# Altium footprint library REUN.468349.001_PSU_Board.PcbLib: 26 footprints (part 2 of 2)
Each footprint in its own frame and in the unit in brackets; x right, y up, seen from the top. Pads: shape width x height; smd on the part's side, far side on the other; paste and mask are expansions set on the pad; w line width, h text height; cw(c..) or ccw(c..) is an arc to the next point about the centre after c.
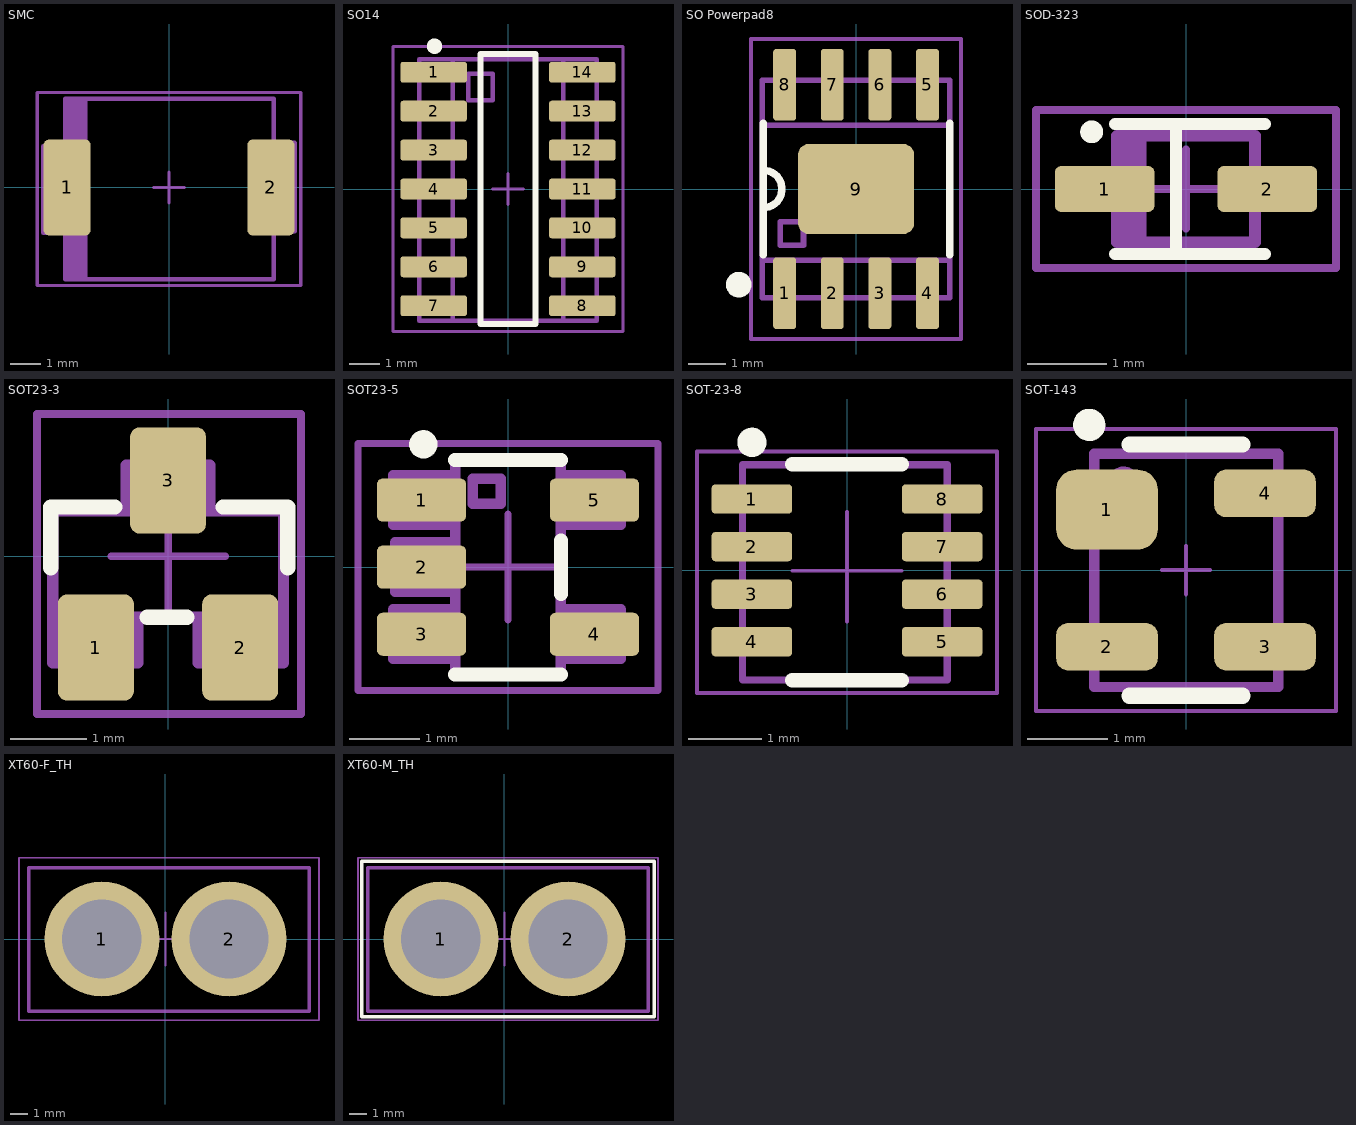
[diagram p1: the footprints below, top view; thin cyan lines are the x and y axes]

## SMC [mm]
pads (2):
  rrect25% 1.54x3.14 smd: 1(-3.325,0) 2(3.325,0)
Mechanical 11:
  rectangle: -3.39,-3 -2.74,2.9
  lines w0.15: -3.39,-1.475 -4.1,-1.475 -4.1,1.35 -3.39,1.35 ; -2.74,-3 -2.74,2.9 ; 3.415,-1.425 4.1,-1.425 4.1,1.45 3.415,1.45 ; -3.39,-3 -3.39,2.9 3.415,2.9 3.415,-3 -3.39,-3
Mechanical 15:
  lines w0.1: -0.5,0 0.5,0 ; 0,-0.5 0,0.5 ; -4.3,-3.2 4.3,-3.2 4.3,3.1 -4.3,3.1 -4.3,-3.2
3D body "User Library-DO-214AB-SMC.step": height 2.44, standoff -0.01, extent -3.9,-2.95 3.9,2.95

## SO14 [mm]
pads (14):
  rrect25% 2.17x0.68 smd: 1(-2.425,3.81) 2(-2.425,2.54) 3(-2.425,1.27) 4(-2.425,0) 5(-2.425,-1.27) 6(-2.425,-2.54) 7(-2.425,-3.81) 8(2.425,-3.81) 9(2.425,-2.54) 10(2.425,-1.27) 11(2.425,0) 12(2.425,1.27) 13(2.425,2.54) 14(2.425,3.81)
Top Overlay:
  circle w0.25: c-2.4,4.66 r0.125
  lines w0.2: -0.9,-4.4 -0.9,4.4 0.9,4.4 0.9,-4.4 -0.9,-4.4
Mechanical 9:
  text ".Designator" at -4.8,5.8 h3.5
Mechanical 10:
  text ".Comment" at -2.9,-6.3 h2
Mechanical 11:
  lines w0.15: -1.8,-4.3 -1.8,4.235 ; 1.8,-4.3 1.8,4.235 ; -2.9,-4.3 -2,-4.3 2.9,-4.3 2.9,4.235 -2.9,4.235 -2.9,-4.3 ; -1.3,2.9 -0.5,2.9 -0.5,3.76 -1.3,3.76 -1.3,2.9
Mechanical 15:
  lines w0.1: -0.5,0 0.5,0 ; 0,-0.5 0,0.5 ; -3.75,-4.65 3.75,-4.65 3.75,4.65 -3.75,4.65 -3.75,-4.65
3D body "User Library-SOIC14-150.step": height 1.75, standoff 0, extent -2.9,-4.275 2.9,4.275

## SO Powerpad8 [mm]
pads (9):
  rrect25% 0.61x1.91 smd: 1(-1.905,-2.78) 2(-0.635,-2.78) 3(0.635,-2.78) 4(1.905,-2.78) 5(1.905,2.78) 6(0.635,2.78) 7(-0.635,2.78) 8(-1.905,2.78)
  rrect25% 3.1x2.41 smd: 9(0,0)
Top Overlay:
  circle w0.254: c-3.127,-2.55 r0.215
  lines w0.2: -2.475,-1.75 -2.475,1.75 ; -2.475,-0.5 ccw(c-2.475,0) -2.475,0.5 ; 2.5,-1.75 2.5,1.75
  lines w0.254: -3.025,-2.55 cw(c-3.152,-2.55) -3.025,-2.54
Mechanical 9:
  text ".Designator" at -4.6,4.825 h3.5
Mechanical 10:
  text ".Comment" at -2.8,-5.45 h2
Mechanical 11:
  lines w0.15: -2.5,-1.9 2.5,-1.9 ; -2.5,1.7 2.5,1.7 ; -2.5,-2.9 2.5,-2.9 2.5,2.9 -2.5,2.9 -2.5,-2.9 ; -2.025,-1.5 -1.4,-1.5 -1.4,-0.875 -2.025,-0.875 -2.025,-1.5
Mechanical 15:
  lines w0.1: -0.75,0 0.75,0 ; 0,-0.75 0,0.75 ; -2.8,-4 2.8,-4 2.8,4 -2.8,4 -2.8,-4
3D body "CircuitWorks-SO-8.step": height 1.45, standoff 0, extent -2.451,-2.925 2.451,2.853

## SOD-323 [mm]
pads (2):
  rrect25% 1.26x0.58 smd: 1(-1.03,0) 2(1.03,0)
Top Overlay:
  lines w0.15: -1.125,0.725 cw(c-1.195,0.725) -1.125,0.732 ; -0.9,-0.825 1,-0.825 ; -0.9,0.825 1,0.825 ; -0.125,-0.8 -0.125,0.825
Top Designator:
  text ".Designator" at 2.575,0.335 h1.5
Mechanical 9:
  text ".Designator" at -4.9,2 h1.5
Mechanical 10:
  text ".Comment" at -2.9,-2.6 h2
Mechanical 11:
  lines w0.15: -0.875,-0.175 -1.3,-0.175 -1.3,0.2 -0.875,0.2 ; -0.775,-0.675 -0.775,0.675 ; -0.675,-0.675 -0.675,0.675 ; -0.575,-0.675 -0.575,0.675 ; 0.875,-0.175 1.3,-0.175 1.3,0.2 0.875,0.2 ; -0.875,-0.675 -0.875,0.675 0.875,0.675 0.875,-0.675 -0.875,-0.675
Mechanical 15:
  lines w0.1: -0.5,0 0.5,0 ; 0,-0.5 0,0.5 ; -1.9,-1 -1.9,1 1.9,1 1.9,-1 -1.9,-1
3D body "User Library-SOD323-1.step": height 1.1, standoff 0, extent -1.3,-0.675 1.3,0.675

## SOT23-3 [mm]
pads (3):
  rrect25% 1x1.4 smd: 1(-0.95,-1.2) 2(0.95,-1.2) 3(0,1)
Top Overlay:
  lines w0.2: -1.545,-0.15 -1.545,0.65 -0.7,0.65 ; -0.275,-0.8 0.25,-0.8 ; 0.725,0.65 1.575,0.65 1.575,-0.15
Top Designator:
  text ".Designator" at 2.588,0.235 h1.5
Mechanical 7:
  lines w0.15: -1.52,-0.8 1.52,-0.8 ; -0.55,0.6 -0.55,1.2 0.55,1.2 0.55,0.6 ; -0.4,-0.8 -0.4,-1.4 -1.52,-1.4 -1.52,0.6 1.52,0.6 1.52,-1.4 0.4,-1.4 0.4,-0.8
Mechanical 9:
  text ".Designator" at -5.1,2.6 h1.5
Mechanical 10:
  text ".Comment" at -2.9,-3.2 h2
Mechanical 15:
  lines w0.1: -0.75,0 0.75,0 ; 0,-0.75 0,0.75 ; -1.725,-2.075 -1.725,1.875 1.75,1.875 1.75,-2.075 -1.725,-2.075
3D body "SOT-23-3.STEP": height 1.1, standoff 0, extent -1.5,-1.25 1.5,1.05

## SOT23-5 [mm]
pads (5):
  rrect25% 1.26x0.61 smd: 1(-1.225,0.95) 2(-1.225,0) 3(-1.225,-0.95) 4(1.225,-0.95) 5(1.225,0.95)
Top Overlay:
  circle w0.2: c-1.2,1.74 r0.1
  lines w0.2: -0.75,-1.52 0.75,-1.52 ; -0.75,1.52 0.75,1.52 ; 0.75,-0.38 0.75,0.38
Top Designator:
  text ".Designator" at -2.575,-0.265 h1.5
Mechanical 9:
  text ".Designator" at -4.575,2.7 h1.5
Mechanical 10:
  text ".Comment" at -3.325,-3.55 h2
Mechanical 11:
  lines w0.15: -0.75,-1.3 -1.625,-1.3 -1.625,-0.6 -0.75,-0.6 ; -0.75,-0.35 -1.6,-0.35 -1.6,0.35 -0.75,0.35 ; -0.75,0.6 -1.625,0.6 -1.625,1.3 -0.75,1.3 ; 0.75,-1.3 1.6,-1.3 1.6,-0.6 0.75,-0.6 ; 0.75,0.6 1.6,0.6 1.6,1.3 0.75,1.3 ; -0.75,-1.52 0.75,-1.52 0.75,1.52 -0.75,1.52 -0.75,-1.52 ; -0.5,0.9 -0.1,0.9 -0.1,1.25 -0.5,1.25 -0.5,0.9
Mechanical 15:
  lines w0.1: -0.75,0 0.75,0 ; 0,-0.75 0,0.75 ; -2.125,-1.75 -2.125,1.75 -2,1.75 2.125,1.75 2.125,-1.75 -2.125,-1.75
3D body "User Library-SOT23-5-3.STEP": height 1.45, standoff 0.01, extent -1.6,-1.555 1.6,1.545

## SOT-23-8 [mm]
height 1.12
pads (8):
  rrect25% 1.1x0.4 smd: 1(-1.3,0.975) 2(-1.3,0.325) 3(-1.3,-0.325) 4(-1.3,-0.975) 5(1.3,-0.975) 6(1.3,-0.325) 7(1.3,0.325) 8(1.3,0.975)
Top Overlay:
  circle w0.2: c-1.3,1.75 r0.1
  lines w0.2: -0.75,-1.5 0.75,-1.5 ; -0.75,1.45 0.75,1.45
Mechanical 13:
  lines w0.1: -1.429,-1.498 1.371,-1.498 1.371,1.442 -1.429,1.442 -1.429,-1.498
Mechanical 15:
  lines w0.05: -0.75,-0.003 0.75,-0.003 ; 0,-0.703 0,0.797 ; -2.05,-1.675 -2.05,1.625 2.05,1.625 2.05,-1.675 -2.05,-1.675
3D body "User Library-sot238.step": height 1.2, standoff 0, extent -1.429,-1.498 1.371,1.442

## SOT-143 [mm]
pads (4):
  rrect50% 1.26x0.99 smd: 1(-0.98,0.75)
  rrect50% 1.26x0.59 smd: 2(-0.98,-0.95) 3(0.98,-0.95) 4(0.98,0.95)
Top Overlay:
  circle w0.2: c-1.2,1.8 r0.1
  lines w0.2: -0.7,-1.559 0.7,-1.559 ; -0.7,1.559 0.7,1.559
Top Designator:
  text ".Designator" at 2.575,0.447 h1.5
Mechanical 9:
  text ".Designator" at -4.7,4.3 h1.5
Mechanical 10:
  text ".Comment" at -2.5,2.4 h2
Mechanical 13:
  circle w0.2: c-0.773,1.083 r0.1
  lines w0.127: -1.137,-1.449 1.143,-1.449 1.143,1.441 -1.137,1.441 -1.137,-1.449
Mechanical 15:
  lines w0.05: -0.3,0 0.3,0 ; 0,-0.3 0,0.3 ; -1.86,-1.75 -1.86,1.75 1.86,1.75 1.86,-1.75 -1.86,-1.75
3D body "PRTR5V0U2X.STEP": height 1.1, standoff 0, extent -1.15,-1.45 1.15,1.45

## XT60-F_TH [mm]
pads (2):
  round 6.5 hole 4.5: 1(-3.6,0) 2(3.6,0)
Top Designator:
  text ".Designator" at -2.375,-0.335 h1.5
Mechanical 7:
  lines w0.2: -7.75,-4.1 8.15,-4.1 8.15,4.05 -7.75,4.05 -7.75,-4.1
Mechanical 15:
  lines w0.1: -1.5,0 1.5,0 ; 0,-1.5 0,1.5 ; -8.3,-4.6 -8.3,4.6 8.7,4.6 8.7,-4.6 -8.3,-4.6
3D body "User Library-XT60 female.step": height 17.5, standoff -4.7, extent -7.75,-4.1 8.15,4.05

## XT60-M_TH [mm]
pads (2):
  round 6.5 hole 4.5: 1(-3.6,0) 2(3.6,0)
Top Overlay:
  lines w0.2: -8.1,-4.4 -8.1,4.4 8.5,4.4 8.5,-4.4 -8.1,-4.4
Top Designator:
  text ".Designator" at 2.775,0.335 h1.5
Mechanical 7:
  lines w0.2: -7.75,-4.1 -7.75,4.05 8.15,4.05 8.15,-4.1 -7.75,-4.1
Mechanical 15:
  lines w0.1: -1.5,0 1.5,0 ; 0,-1.5 0,1.5 ; -8.3,-4.6 8.7,-4.6 8.7,4.6 -8.3,4.6 -8.3,-4.6
3D body "User Library-XT60 male.step": height 16.5, standoff -4.7, extent -7.75,-4.1 8.15,4.05